# EAGLE library part ESDAXXSC6 (library cpu)
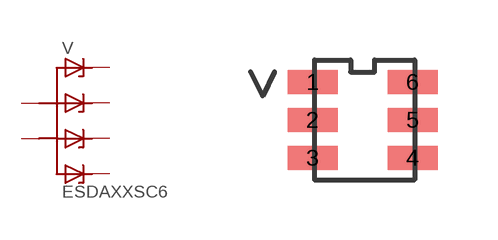
[diagram p2: symbol with the pads of OMAT_IC_2_SOT23-6; footprint OMAT_IC_2_SOT23-6]

Designator prefix V

## ESDAXXSC6  [OMAT_IC_2_SOT23-6]
1  C  pas
2  A  pas
3  C1  pas
4  C2  pas
5  A1  pas
6  C3  pas

## Footprint OMAT_IC_2_SOT23-6 (pad centres in mm)
smd 1.25 x 0.6: 1 -1.25,0.95; 2 -1.25,0; 3 -1.25,-0.95; 4 1.25,-0.95; 5 1.25,0; 6 1.25,0.95